# Altium schematic symbol library 742792625.A1.Schlib: 1 symbol
Pins are listed as number, name and electrical type; pins without a type are passive.

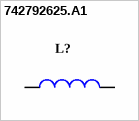
[diagram p0: symbol 742792625.A1]

## 742792625.A1
designator L?, comment 742792625  (value not drawn)
SMD EMI Suppression Ferrite Bead WE-CBF, Z = 120 Ohm
pins: 1, 2